# EAGLE library part SS-60000-008 (library con-bel-stewart)
MOD JACK
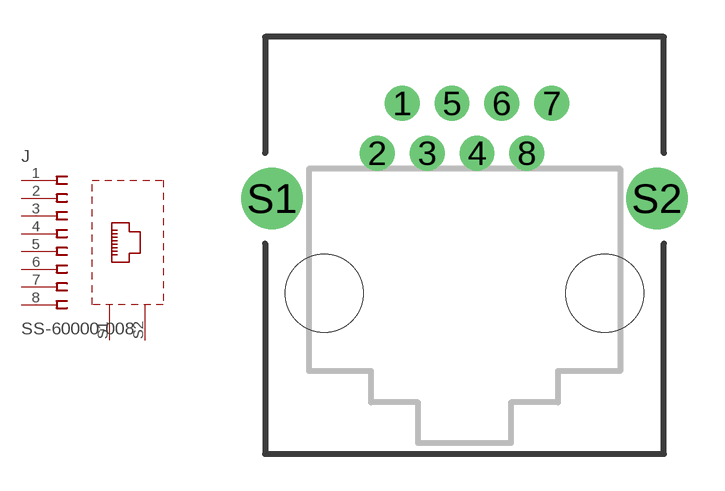
[diagram p0: symbol with the pads of 520260-4; footprint 520260-4]

Designator prefix J

## SS-60000-008  [520260-4]
1  1  pas
2  2  pas
3  3  pas
4  4  pas
5  5  pas
6  6  pas
7  7  pas
8  8  pas
S1  P$1  pas
S2  P$2  pas

## Footprint 520260-4 (pad centres in mm)
Modular Jack Shielded, Vertical, Board Guide, Board Lock
drill 0.914: 1 -2.54,7.747; 2 -3.556,5.715; 3 -1.524,5.715; 4 0.508,5.715; 5 -0.508,7.747; 6 1.524,7.747; 7 3.556,7.747; 8 2.54,5.715
drill 1.676: S1 -7.849,3.861; S2 7.849,3.861
hole 3.175 at -5.715,0
hole 3.175 at 5.715,0